# Altium footprint library PTN09S2H10120K1A.PcbLib: 1 footprints
Each footprint in its own frame and in the unit in brackets; x right, y up, seen from the top. Pads: shape width x height; smd on the part's side, far side on the other; paste and mask are expansions set on the pad; w line width, h text height; cw(c..) or ccw(c..) is an arc to the next point about the centre after c.
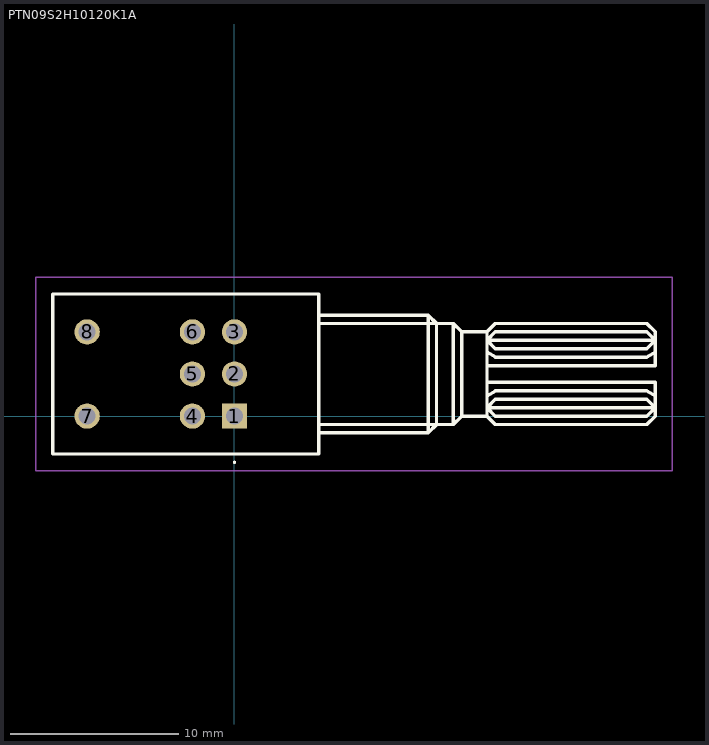
[diagram p0: the footprint, top view; thin cyan lines are the x and y axes]

## PTN09S2H10120K1A [mm]
pads (8):
  rect 1.5x1.5 hole 1: 1(0,0)
  round 1.5 hole 1: 2(0,2.5) 3(0,5) 4(-2.5,0) 5(-2.5,2.5) 6(-2.5,5) 7(-8.75,0) 8(-8.75,5)
Top Overlay:
  lines w0.1: 0,-2.8 0,-2.8 ; 0,-2.8 ccw(c0,-2.75) 0,-2.7 ; 0,-2.8 cw(c0,-2.75) 0,-2.7 ; 0,-2.7 0,-2.7
  lines w0.2: 5,-1 11.5,-1 ; 5,-0.5 13,-0.5 ; 5,5.5 13,5.5 ; 5,6 11.5,6 ; 15,1.2 15.5,1.5 24.5,1.5 25,1.2 ; 15,3.8 15.5,3.5 24.5,3.5 25,3.8 ; 11.5,-1 12,-0.5 12,5.5 11.5,6 ; 11.5,-1 11.5,6 ; 13,-0.5 13.5,0 ; 13,-0.5 13,5.5 ; 13,5.5 13.5,5 ; 13.5,0 15,0 ; 13.5,0 13.5,5 ; 13.5,5 15,5 ; 15,0 15.5,-0.5 24.5,-0.5 25,0 25,2 15,2 ; 15,0 15,2 ; 15,0.5 15.5,1 24.5,1 25,0.5 ; 15,0.5 15.5,0 24.5,0 25,0.5 ; 15,0.5 25,0.5 ; 15,2 15,3 ; 15,3 25,3 25,5 24.5,5.5 15.5,5.5 15,5 ; 15,3 15,5 ; 15,4.5 15.5,4 24.5,4 25,4.5 ; 15,4.5 15.5,5 24.5,5 25,4.5 ; 15,4.5 25,4.5 ; -10.8,-2.25 5,-2.25 5,7.25 -10.8,7.25 -10.8,-2.25
Mechanical 15:
  lines w0.1: 5,-1 11.5,-1 ; 5,-0.5 13,-0.5 ; 5,5.5 13,5.5 ; 5,6 11.5,6 ; 15,1.2 15.5,1.5 24.5,1.5 25,1.2 ; 15,3.8 15.5,3.5 24.5,3.5 25,3.8 ; 11.5,-1 12,-0.5 12,5.5 11.5,6 ; 11.5,-1 11.5,6 ; 13,-0.5 13.5,0 ; 13,-0.5 13,5.5 ; 13,5.5 13.5,5 ; 13.5,0 13.5,5 ; 13.5,0 15,0 ; 13.5,5 15,5 ; 15,0 15.5,-0.5 24.5,-0.5 25,0 25,2 15,2 ; 15,0 15,2 ; 15,0.5 15.5,0 24.5,0 25,0.5 ; 15,0.5 15.5,1 24.5,1 25,0.5 ; 15,0.5 25,0.5 ; 15,2 15,3 ; 15,3 25,3 25,5 24.5,5.5 15.5,5.5 15,5 ; 15,3 15,5 ; 15,4.5 15.5,5 24.5,5 25,4.5 ; 15,4.5 15.5,4 24.5,4 25,4.5 ; 15,4.5 25,4.5 ; -10.8,-2.25 5,-2.25 5,7.25 -10.8,7.25 -10.8,-2.25
Mechanical 20:
  lines w0.1: -11.8,-3.25 26,-3.25 26,8.25 -11.8,8.25 -11.8,-3.25